# Altium schematic symbol library WE-SLM.SchLib: 6 symbols
Pins are listed as number, name and electrical type; pins without a type are passive.

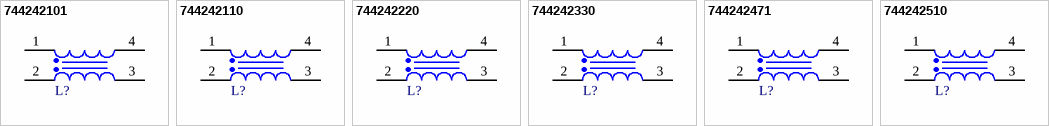
[diagram p0: symbols 744242101 to 744242510]

## 744242101
designator L?, comment 100uH  (value not drawn)
WE-SLM SMT Common Mode Line Filter, 100uH, 0.3A, 0.58Ohm; Manufacturer: Wurth Elektronik; Manufacturer Part Number: 744242101; Impedance Max: 4000Ohm; Number of Windings: 2; Rated Voltage: 80V; Winding Style: bifiliar; ComponentLink1Description: Manufacturer Link; ComponentLink1URL: https://www.we-online.com/redexpert/article/744242101?ad; ComponentLink2Description: Datasheet; ComponentLink2URL: https://www.we-online.com/redexpert/spec/744242101?ad; Category: Common Mode Chokes; Match Code: WE-SLM; Mount: Surface Mount; Operating Temperature Max: 125°C; Operating Temperature Min: -40°C; Packaging: Tape and Reel; Length: 6mm; Width: 3.3mm; Height: 3.3mm; DC Resistance Max: 0.58Ohm; Inductance: 100uH; Rated Current: 0.3A
footprint WE-SLM_L6W3.3H3.3
pins: 1, 2, 3, 4

## 744242110
designator L?, comment 11uH  (value not drawn)
WE-SLM SMT Common Mode Line Filter, 11uH, 0.3A, 0.18Ohm; Manufacturer: Wurth Elektronik; Manufacturer Part Number: 744242110; Impedance Max: 800Ohm; Number of Windings: 2; Rated Voltage: 80V; Winding Style: bifiliar; ComponentLink1Description: Manufacturer Link; ComponentLink1URL: https://www.we-online.com/redexpert/article/744242110?ad; ComponentLink2Description: Datasheet; ComponentLink2URL: https://www.we-online.com/redexpert/spec/744242110?ad; Category: Common Mode Chokes; Match Code: WE-SLM; Mount: Surface Mount; Operating Temperature Max: 125°C; Operating Temperature Min: -40°C; Packaging: Tape and Reel; Length: 6mm; Width: 3.3mm; Height: 3.3mm; DC Resistance Max: 0.18Ohm; Inductance: 11uH; Rated Current: 0.3A
footprint WE-SLM_L6W3.3H3.3
pins: 1, 2, 3, 4

## 744242220
designator L?, comment 22uH  (value not drawn)
WE-SLM SMT Common Mode Line Filter, 22uH, 0.3A, 0.23Ohm; Manufacturer: Wurth Elektronik; Manufacturer Part Number: 744242220; Impedance Max: 1500Ohm; Number of Windings: 2; Rated Voltage: 80V; Winding Style: bifiliar; ComponentLink1Description: Manufacturer Link; ComponentLink1URL: https://www.we-online.com/redexpert/article/744242220?ad; ComponentLink2Description: Datasheet; ComponentLink2URL: https://www.we-online.com/redexpert/spec/744242220?ad; Category: Common Mode Chokes; Match Code: WE-SLM; Mount: Surface Mount; Operating Temperature Max: 125°C; Operating Temperature Min: -40°C; Packaging: Tape and Reel; Length: 6mm; Width: 3.3mm; Height: 3.3mm; DC Resistance Max: 0.23Ohm; Inductance: 22uH; Rated Current: 0.3A
footprint WE-SLM_L6W3.3H3.3
pins: 1, 2, 3, 4

## 744242330
designator L?, comment 33uH  (value not drawn)
WE-SLM SMT Common Mode Line Filter, 33uH, 0.3A, 0.27Ohm; Manufacturer: Wurth Elektronik; Manufacturer Part Number: 744242330; Impedance Max: 2000Ohm; Number of Windings: 2; Rated Voltage: 80V; Winding Style: bifiliar; ComponentLink1Description: Manufacturer Link; ComponentLink1URL: https://www.we-online.com/redexpert/article/744242330?ad; ComponentLink2Description: Datasheet; ComponentLink2URL: https://www.we-online.com/redexpert/spec/744242330?ad; Category: Common Mode Chokes; Match Code: WE-SLM; Mount: Surface Mount; Operating Temperature Max: 125°C; Operating Temperature Min: -40°C; Packaging: Tape and Reel; Length: 6mm; Width: 3.3mm; Height: 3.3mm; DC Resistance Max: 0.27Ohm; Inductance: 33uH; Rated Current: 0.3A
footprint WE-SLM_L6W3.3H3.3
pins: 1, 2, 3, 4

## 744242471
designator L?, comment 470uH  (value not drawn)
WE-SLM SMT Common Mode Line Filter, 470uH, 0.4A, 0.35Ohm; Manufacturer: Wurth Elektronik; Manufacturer Part Number: 744242471; Impedance Max: 2200Ohm; Number of Windings: 2; Rated Voltage: 80V; Winding Style: bifiliar; ComponentLink1Description: Manufacturer Link; ComponentLink1URL: https://www.we-online.com/redexpert/article/744242471?ad; ComponentLink2Description: Datasheet; ComponentLink2URL: https://www.we-online.com/redexpert/spec/744242471?ad; Category: Common Mode Chokes; Match Code: WE-SLM; Mount: Surface Mount; Operating Temperature Max: 125°C; Operating Temperature Min: -40°C; Packaging: Tape and Reel; Length: 6mm; Width: 3.3mm; Height: 3.3mm; DC Resistance Max: 0.35Ohm; Inductance: 470uH; Rated Current: 0.4A
footprint WE-SLM_L6W3.3H3.3
pins: 1, 2, 3, 4

## 744242510
designator L?, comment 51uH  (value not drawn)
WE-SLM SMT Common Mode Line Filter, 51uH, 0.4A, 0.32Ohm; Manufacturer: Wurth Elektronik; Manufacturer Part Number: 744242510; Impedance Max: 2500Ohm; Number of Windings: 2; Rated Voltage: 80V; Winding Style: bifiliar; ComponentLink1Description: Manufacturer Link; ComponentLink1URL: https://www.we-online.com/redexpert/article/744242510?ad; ComponentLink2Description: Datasheet; ComponentLink2URL: https://www.we-online.com/redexpert/spec/744242510?ad; Category: Common Mode Chokes; Match Code: WE-SLM; Mount: Surface Mount; Operating Temperature Max: 125°C; Operating Temperature Min: -40°C; Packaging: Tape and Reel; Length: 6mm; Width: 3.3mm; Height: 3.3mm; DC Resistance Max: 0.32Ohm; Inductance: 51uH; Rated Current: 0.4A
footprint WE-SLM_L6W3.3H3.3
pins: 1, 2, 3, 4